# Altium schematic symbol library Calculator_SchLib.SchLib: 3 symbols
Pins are listed as number, name and electrical type; pins without a type are passive.

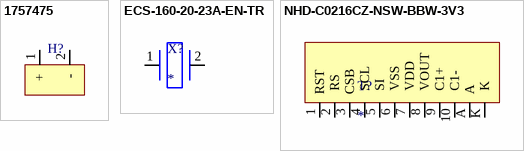
[diagram p0: symbols 1757475 to NHD-C0216CZ-NSW-BBW-3V3]

## 1757475
designator H?
TERM BLOCK HDR 2POS 90DEG 5MM; Supplier 1: Arrow Electronics; Supplier Part Number 1: 1757475
footprint 1757475
pins: 1 +, 2 -

## ECS-160-20-23A-EN-TR
designator X?
CRYSTAL 16.0000MHZ 20PF SMD; Supplier 1: Newark; Supplier Part Number 1: 54AK5822
footprint ECX-64AEN/64CEN
pins: 1, 2

## NHD-C0216CZ-NSW-BBW-3V3
designator T?
LCD MOD 32DIG 16X2 TRANSMISV WHT; Supplier 1: Digi-Key; Supplier Part Number 1: NHD-C0216CZ-NSW-BBW-3V3-ND
footprint NHD-C0216CZ-NSW-BBW-3V3
pins: 1 RST, 2  RS, 3 CSB, 4  SCL, 5  SI, 6  VSS, 7  VDD, 8  VOUT, 9  C1+, 10  C1-, A, K  K